# EAGLE library part IMU_ (library custom_Jeongjoon)
LSM9DS1TR 9-Axis IMU
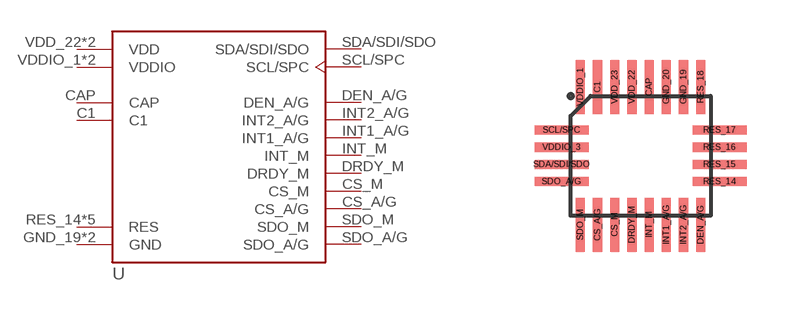
[diagram p0: symbol with the pads of LSM9DS1TR; footprint LSM9DS1TR]

Designator prefix U

## IMU_LSM9DS1TR (CREATOR: Jeongjoon; DIST: Digikey; DISTPN: 497-14946-1-ND; MFR: STMicroelectronics; MPN: LSM9DS1TR)  [LSM9DS1TR]
C1  C1
CAP  CAP
CS_A/G  CS_A/G
CS_M  CS_M
DEN_A/G  DEN_A/G
DRDY_M  DRDY_M
GND_19  GND
GND_20  GND
INT1_A/G  INT1_A/G
INT2_A/G  INT2_A/G
INT_M  INT_M
RES_14  RES
RES_15  RES
RES_16  RES
RES_17  RES
RES_18  RES
SCL/SPC  SCL/SPC
SDA/SDI/SDO  SDA/SDI/SDO
SDO_A/G  SDO_A/G
SDO_M  SDO_M
VDD_22  VDD
VDD_23  VDD
VDDIO_1  VDDIO
VDDIO_3  VDDIO

## Footprint LSM9DS1TR (pad centres in mm)
IMU_LSM9DS1TR
smd 0.23 x 1.35: C1 -1.075,1.725; CAP 0.215,1.725; CS_A/G -1.075,-1.725; CS_M -0.645,-1.725; DEN_A/G 1.505,-1.725; DRDY_M -0.215,-1.725; GND_19 1.075,1.725; GND_20 0.645,1.725; INT1_A/G 0.645,-1.725; INT2_A/G 1.075,-1.725; INT_M 0.215,-1.725; RES_18 1.505,1.725; SDO_M -1.505,-1.725; VDD_22 -0.215,1.725; VDD_23 -0.645,1.725; VDDIO_1 -1.505,1.725
smd 1.35 x 0.23: RES_14 1.975,-0.645; RES_15 1.975,-0.215; RES_16 1.975,0.215; RES_17 1.975,0.645; SCL/SPC -1.975,0.645; SDA/SDI/SDO -1.975,-0.215; SDO_A/G -1.975,-0.645; VDDIO_3 -1.975,0.215